# EAGLE library part AD8130ARZ (library instrumentation_opamp)
Low Cost 270 MHz Differential Receiver Amplifiers Check availability <https://pricing.snapeda.com/parts/AD8130ARZ/Analog%20Devices/view-part?ref=eda>
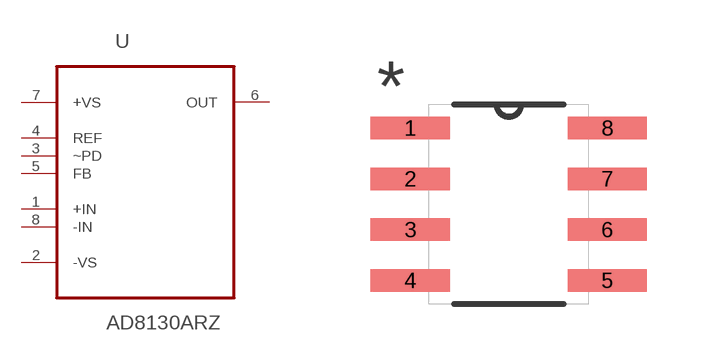
[diagram p0: symbol with the pads of SOIC127P600X175-8N; footprint SOIC127P600X175-8N]

Designator prefix U

## AD8130ARZ (AVAILABILITY: In Stock; DESCRIPTION: Differential Amplifier 1 Circuit - 8-SOIC; MF: Analog Devices; MP: AD8130ARZ; PACKAGE: SOIC-8 Analog Devices; PRICE: None; PURCHASE-URL: https://pricing.snapeda.com/search/part/AD8130ARZ/?ref=eda)  [SOIC127P600X175-8N]
1  +IN  in
2  -VS  pwr
3  ~PD  pas
4  REF  pas
5  FB  pas
6  OUT  out
7  +VS  pwr
8  -IN  in

## Footprint SOIC127P600X175-8N (pad centres in mm)
smd 1.981 x 0.559: 1 -2.464,1.905; 2 -2.464,0.635; 3 -2.464,-0.635; 4 -2.464,-1.905; 5 2.464,-1.905; 6 2.464,-0.635; 7 2.464,0.635; 8 2.464,1.905